# Altium footprint library B6B-EH-A.PcbLib: 1 footprints
Each footprint in its own frame and in the unit in brackets; x right, y up, seen from the top. Pads: shape width x height; smd on the part's side, far side on the other; paste and mask are expansions set on the pad; w line width, h text height; cw(c..) or ccw(c..) is an arc to the next point about the centre after c.
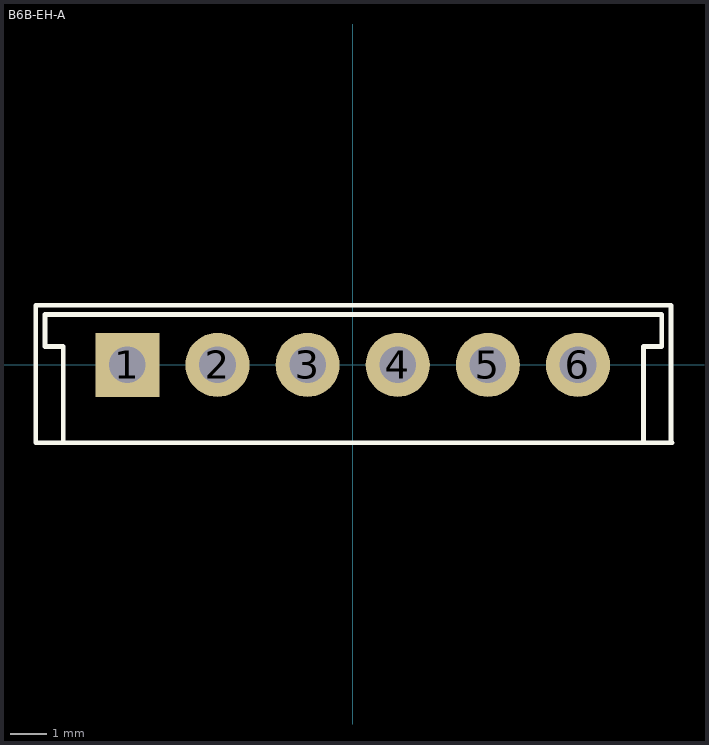
[diagram p0: the footprint, top view; thin cyan lines are the x and y axes]

## B6B-EH-A [mil] "EH Connector 2.5mm pitch"
height 236.22
pads (6):
  rect 70x70 hole 40: 1(-246.06,0)
  round 70 hole 40: 2(-147.64,0) 3(-49.21,0) 4(49.21,0) 5(147.64,0) 6(246.06,0)
TopOverlay:
  lines w5: -316.06,-85 -316.06,20 -336.06,20 -336.06,55 337.64,55 337.64,20 317.64,20 317.64,-85 ; 347.64,-85 347.64,65 -346.06,65 -346.06,-85 348.94,-85
3D body: height 39.37, standoff 0, extent -336.04,-84.98 337.62,54.98
3D body: height 236.22, standoff 0, extent -346.04,-84.98 347.62,64.98